# Altium footprint library CAPC0805X050.PcbLib: 3 footprints
Each footprint in its own frame and in the unit in brackets; x right, y up, seen from the top. Pads: shape width x height; smd on the part's side, far side on the other; paste and mask are expansions set on the pad; w line width, h text height; cw(c..) or ccw(c..) is an arc to the next point about the centre after c.
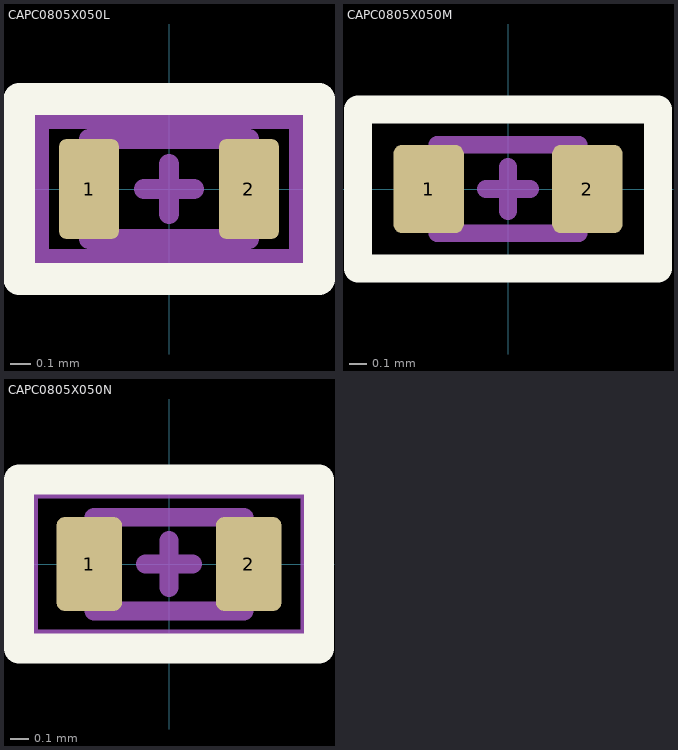
[diagram p0: the footprints below, top view; thin cyan lines are the x and y axes]

## CAPC0805X050L [mm] "Capacitors, Chip, Non-polarized"
height 0.55
pads (2):
  rrect25% 0.3x0.5 smd: 1(-0.4,0) 2(0.4,0)
Top Overlay:
  lines w0.16: -0.75,-0.45 0.75,-0.45 0.75,0.45 -0.75,0.45 -0.75,-0.45
Top Component Center:
  lines w0.1: -0.125,0 0.125,0 ; 0,-0.125 0,0.125
Top Courtyard:
  lines w0.1: -0.65,-0.35 0.65,-0.35 0.65,0.35 -0.65,0.35 -0.65,-0.35
Top Assembly:
  lines w0.1: -0.4,-0.25 0.4,-0.25 0.4,0.25 -0.4,0.25 -0.4,-0.25
  text ".Designator" at 0,0 h1
3D body "CAPC0805X050L.STEP": height 0.5, standoff 0, extent -0.4,-0.25 0.4,0.25

## CAPC0805X050M [mm] "Capacitors, Chip, Non-polarized"
height 0.55
pads (2):
  rrect25% 0.4x0.5 smd: 1(-0.45,0) 2(0.45,0)
Top Overlay:
  lines w0.16: -0.85,-0.45 0.85,-0.45 0.85,0.45 -0.85,0.45 -0.85,-0.45
Top Component Center:
  lines w0.1: -0.125,0 0.125,0 ; 0,-0.125 0,0.125
Top Courtyard:
  lines w0.1: -0.85,-0.45 0.85,-0.45 0.85,0.45 -0.85,0.45 -0.85,-0.45
Top Assembly:
  lines w0.1: -0.4,-0.25 0.4,-0.25 0.4,0.25 -0.4,0.25 -0.4,-0.25
  text ".Designator" at 0,0 h1
3D body "CAPC0805X050M.STEP": height 0.5, standoff 0, extent -0.4,-0.25 0.4,0.25

## CAPC0805X050N [mm] "Capacitors, Chip, Non-polarized"
height 0.55
pads (2):
  rrect25% 0.35x0.5 smd: 1(-0.425,0) 2(0.425,0)
Top Overlay:
  lines w0.16: -0.8,-0.45 0.8,-0.45 0.8,0.45 -0.8,0.45 -0.8,-0.45
Top Component Center:
  lines w0.1: -0.125,0 0.125,0 ; 0,-0.125 0,0.125
Top Courtyard:
  lines w0.1: -0.75,-0.4 0.75,-0.4 0.75,0.4 -0.75,0.4 -0.75,-0.4
Top Assembly:
  lines w0.1: -0.4,-0.25 0.4,-0.25 0.4,0.25 -0.4,0.25 -0.4,-0.25
  text ".Designator" at 0,0 h1
3D body "CAPC0805X050N.STEP": height 0.5, standoff 0, extent -0.4,-0.25 0.4,0.25